# Altium schematic symbol library LM5164.Schlib: 1 symbol
Pins are listed as number, name and electrical type; pins without a type are passive.

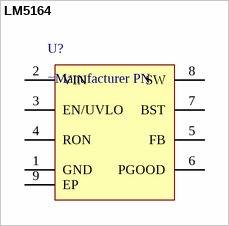
[diagram p0: symbol LM5164]

## LM5164
designator U?
SW Sychronous Buck Conv.
pins: 1 GND (power), 2 VIN (power), 3 EN/UVLO, 4 RON, 5 FB, 6 PGOOD, 7 BST, 8 SW, 9 EP (power)